# Altium schematic symbol library Schlib.SchLib: 4 symbols
Pins are listed as number, name and electrical type; pins without a type are passive.

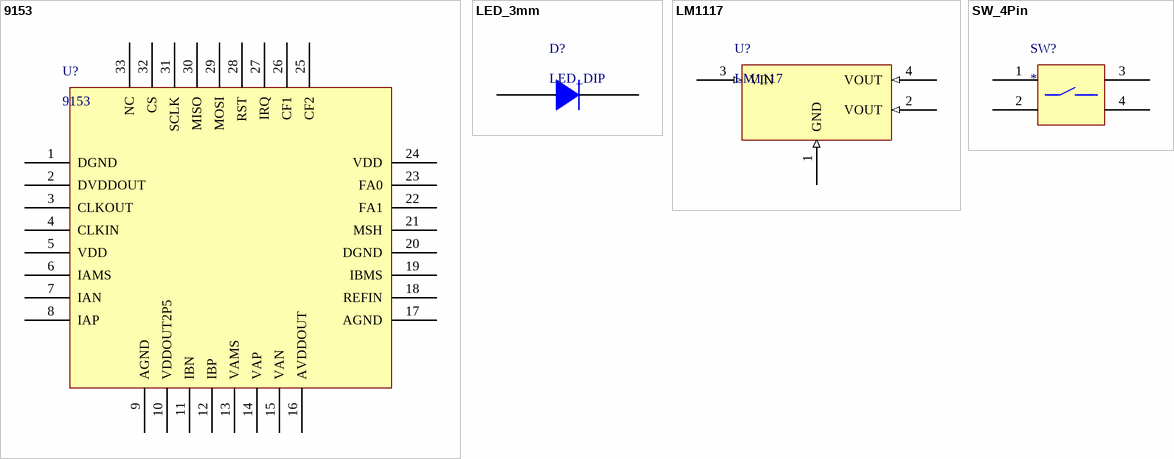
[diagram p0: symbols 9153 to SW_4Pin]

## 9153
designator U?
footprint LFCSP_32
pins: 1 DGND, 2 DVDDOUT, 3 CLKOUT, 4 CLKIN, 5 VDD, 6 IAMS, 7 IAN, 8 IAP, 9 AGND, 10 VDDOUT2P5, 11 IBN, 12 IBP, 13 VAMS, 14 VAP, 15 VAN, 16 AVDDOUT, 17 AGND, 18 REFIN, 19 IBMS, 20 DGND, 21 MSH, 22 FA1, 23 FA0, 24 VDD, 25 CF2, 26 CF1, 27 IRQ, 28 RST, 29 MOSI, 30 MISO, 31 SCLK, 32 CS, 33 NC

## LED_3mm
designator D?, comment LED_DIP
footprint LED_3mm
pins: 1 Pos, 2 Neg

## LM1117
designator U?
footprint SOT223-4L (SOT223, 4-Leads, Body 6.5x3.5mm, Pitch 2.3mm, Lead Span 7mm, IPC High Density)
pins: 1 GND (in), 2 VOUT (in), 3 VIN (in), 4 VOUT (in)

## SW_4Pin
designator SW?
footprint SW_4
pins: 1, 2, 3, 4